# Altium schematic symbol library PBL - Connectors.SCHLIB: 61 symbols
Pins are listed as number, name and electrical type; pins without a type are passive.

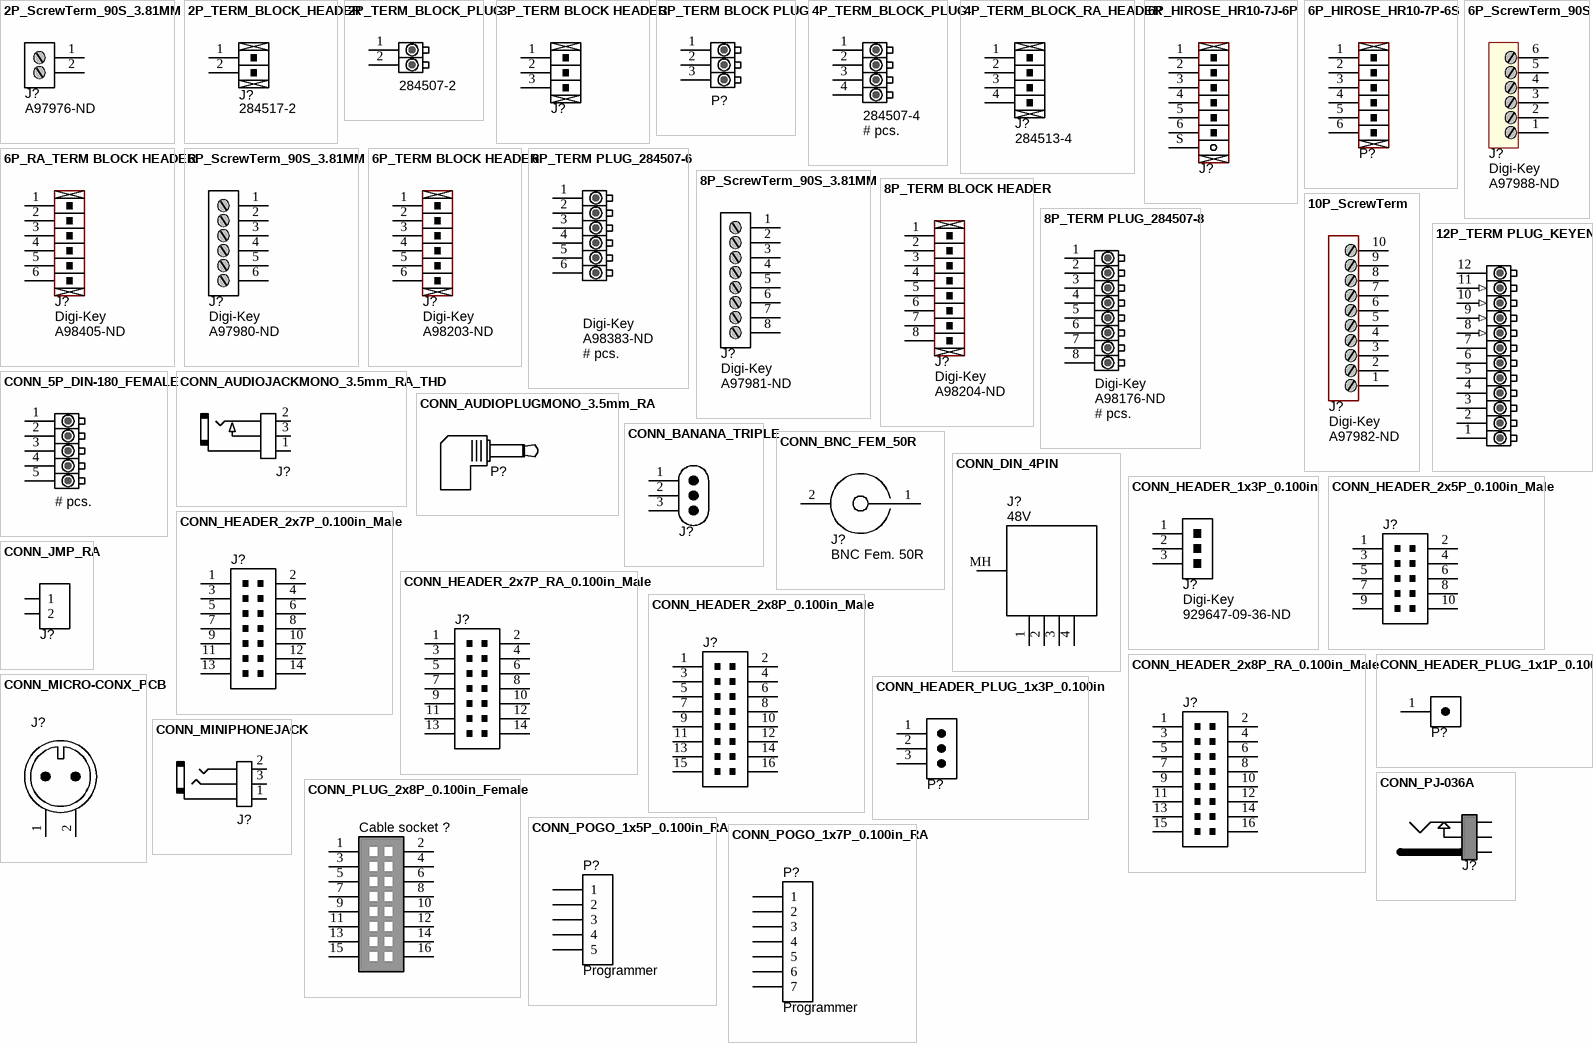
[diagram p0: symbols 2P_ScrewTerm_90S_3.81MM to CONN_POGO_1x7P_0.100in_RA]

## 2P_ScrewTerm_90S_3.81MM
designator J?, comment Supplier Part Number 1: A97976-ND  (hidden comment: Stackable ScrewTerm)
Terminal Block Screw Type THT 2-Position 3.81mm pitch; Manufacturer 1: Tyco Electronics; Manufacturer Part Number 1: 1776113-2; Value: 2 position; Pitch: 0.150" (3.81mm); Positions Per Level: 2; SCDType: undef; Package / Case: Side Entry; 3.81mm pitch; Category: Connectors Interconnects; Color: Black; Supplier 1: Digi-Key
footprint 2P_PCB_ScrewTerm_90S_3.81MM (TERM BLOCK 2POS SIDE ENT STACKABLE 3.81MM)
pins: 1, 2

## 2P_TERM_BLOCK_HEADER
designator J?  Manufacturer Part Number 1: 284517-2  (hidden comment: *)
Terminal Block THT 2-position header 3.81mm pitch; Manufacturer 1: TE Connectivity; Pitch: 0.150" (3.81mm); Voltage: 300V; Positions Per Level: 2; Mating Connector: 284507-2; SCDType: undef; Category: Connectors; Mounting Type: Through Hole; Terminal Block Type: Header, Male Pins, Right-angle, Shrouded (4 Side); Package / Case: Header; 3.81mm pitch; Supplier 1: Digi-Key; Supplier Part Number 1: A98410-ND
footprint 2P_PCB_TERM_BLOCK_HDR (TERM BLOCK HDR 2POS 3.81MM)
pins: 1, 2

## 2P_TERM_BLOCK_PLUG
designator J?, comment Manufacturer Part Number 1: 284507-2  (hidden comment: # pcs.)  (mechanical)
Terminal Block Plug 2-position 3.81mm pitch; Manufacturer 1: Tyco Electronics; Pitch: 0.150" (3.81mm); Mating Orientation: In-Line with Wire; Current: 11A; Voltage: 300V; Wire Gauge: 14-30 AWG; Number of Levels: 1; Positions Per Level: 2; SCDType: undef; Category: Connectors Interconnects; Terminal Block Type: Plug, Female Sockets; Color: Green; Mounting Type: Free Hanging (In-Line); Termination: Screw; ComponentLink1URL: http://documents.tycoelectronics.com/commerce/DocumentDelivery/DDEController?Action=srchrtrv&DocNm=284507&DocType=CD&DocLang=EN; ComponentLink1Description: http://documents.tycoelectronics.com/commerce/DocumentDelivery/DDEController?Action=srchrtrv&DocNm=284507&DocType=CD&DocLang=EN; Supplier 1: Digi-Key; Supplier Part Number 1: A98175-ND
pins: 1, 2

## 3P_TERM BLOCK HEADER
designator J?  (value not drawn)
Terminal Block THT 3-Position header 3.81mm pitch; Manufacturer 1: TE Connectivity; Manufacturer Part Number 1: 284517-3; Pitch: 0.150" (3.81mm); Voltage: 300V; Mating Connector: 284507-3; Value: 3 position; Positions Per Level: 3; SCDType: undef; Category: Connectors; Mounting Type: Through Hole; Terminal Block Type: Header, Male Pins, Shrouded (4 Side); Package / Case: Side Entry; 3.81mm pitch; Supplier 1: Digi-Key; Supplier Part Number 1: A98411-ND; ComponentLink1URL: http://www.te.com/commerce/DocumentDelivery/DDEController?Action=srchrtrv&DocNm=284517&DocType=Customer+Drawing&DocLang=English; ComponentLink1Description: http://www.te.com/commerce/DocumentDelivery/DDEController?Action=srchrtrv&DocNm=284517&DocType=Customer+Drawing&DocLang=English
footprint 3P_PCB_TERM_BLOCK_HDR (TERM BLOCK HDR 3POS 3.81MM)
pins: 1, 2, 3

## 3P_TERM BLOCK PLUG
designator P?  (value not drawn)  (mechanical)
Terminal block plug 3-position 3.81mm pitch; Manufacturer 1: TE Connectivity; Manufacturer Part Number 1: 284507-3; Pitch: 0.150" (3.81mm); Voltage: 300V; Mating Connector: 284517-3; Value: 3 position; Positions Per Level: 3; Plug Wire Entry: 180°; Wire Gauge: 14-30 AWG; SCDType: undef; Category: Connectors; Mounting Type: Free Hanging (In-Line); Terminal Block Type: Plug, Female Sockets; Supplier 1: Digi-Key; Supplier Part Number 1: A98380-ND; ComponentLink2URL: http://www.te.com/commerce/DocumentDelivery/DDEController?Action=srchrtrv&DocNm=284507&DocType=Customer+Drawing&DocLang=English; ComponentLink2Description: http://www.te.com/commerce/DocumentDelivery/DDEController?Action=srchrtrv&DocNm=284507&DocType=Customer+Drawing&DocLang=English
pins: 1, 2, 3

## 4P_TERM_BLOCK_PLUG
designator J?, comment # pcs.  Manufacturer Part Number 1: 284507-4  (mechanical)
Terminal Block Plug 4-position 3.81mm pitch; Manufacturer 1: Tyco Electronics; Pitch: 0.150" (3.81mm); Mating Orientation: In-Line with Wire; Current: 11A; Voltage: 300V; Wire Gauge: 14-30 AWG; Number of Levels: 1; Positions Per Level: 4; Value: 4 position; SCDType: undef; Category: Connectors Interconnects; Terminal Block Type: Plug, Female Sockets; Color: Green; Mounting Type: Free Hanging (In-Line); Features: -; Termination: Screw; ComponentLink1URL: http://documents.tycoelectronics.com/commerce/DocumentDelivery/DDEController?Action=srchrtrv&DocNm=284507&DocType=CD&DocLang=EN; ComponentLink1Description: http://documents.tycoelectronics.com/commerce/DocumentDelivery/DDEController?Action=srchrtrv&DocNm=284507&DocType=CD&DocLang=EN; QtyOverride: *; Supplier 1: Digi-Key; Supplier Part Number 1: A98381-ND
pins: 1, 2, 3, 4

## 4P_TERM_BLOCK_RA_HEADER
designator J?  Manufacturer Part Number 1: 284513-4  (hidden comment: *)
Terminal Block THT Right Angle 4-Position Header 3.81mm pitch; Manufacturer 1: Tyco Electronics; Pitch: 0.150" (3.81mm); Voltage: 300V; Value: 4 position; Positions Per Level: 6; SCDType: undef; Category: Connectors; Mounting Type: Through Hole; Terminal Block Type: Header, Male Pins, Right-angle, Shrouded (4 Side); Package / Case: Side Entry; 3.81mm pitch; Supplier 1: Digi-Key; Supplier Part Number 1: A98403-ND
footprint 4P_PCB_TERM_BLOCK_HDR_RA (TERM BLOCK HDR 4POS 3.81MM RIGHT-ANGLE)
pins: 1, 2, 3, 4

## 6P_HIROSE_HR10-7J-6P
designator J?, comment HR10-7J-6P(73)  (value not drawn)
Connector 6 jack with pin insert; Manufacturer 1: Hirose Electric Co Ltd; Value: 6 position; SCDType: undef; Category: Connectors; Manufacturer Part Number 1: HR10-7J-6P(73); Supplier 1: Digi-Key; Supplier Part Number 1: HR1567-ND
footprint HDR1X6S (Connector; Header; 6 Position with shield term)
pins: 1, 2, 3, 4, 5, 6, S

## 6P_HIROSE_HR10-7P-6S
designator P?, comment HR10-7P-6S(73)  (value not drawn)
Connector 6 contact with socket insert; Manufacturer 1: Hirose Electric Co Ltd; Value: 6 position; SCDType: undef; Category: Connectors; Manufacturer Part Number 1: HR10-7P-6S(73); Supplier 1: Digi-Key; Supplier Part Number 1: HR1561-ND
footprint HDR1X6 (Connector; Header; 6 Position)
pins: 1, 2, 3, 4, 5, 6

## 6P_RA_TERM BLOCK HEADER
designator J?  Supplier 1: Digi-Key  Supplier Part Number 1: A98405-ND  (hidden comment: *)
Terminal Block THT Right Angle 6-Position Header 3.81mm pitch; Manufacturer 1: Tyco Electronics; Manufacturer Part Number 1: 284513-6; Pitch: 0.150" (3.81mm); Voltage: 300V; Mating Connector: 284507-6; Value: 6 position; Positions Per Level: 6; SCDType: undef; Category: Connectors; Mounting Type: Through Hole; Terminal Block Type: Header, Male Pins, Right-angle, Shrouded (4 Side); Package / Case: Side Entry; 3.81mm pitch
footprint 6P_PCB_TERM BLOCK HDR_RA (TERM BLOCK HDR 6POS 3.81MM RIGHT-ANGLE)
pins: 1, 2, 3, 4, 5, 6

## 6P_ScrewTerm_90S
designator J?  Supplier 1: Digi-Key  Supplier Part Number 1: A97988-ND  (hidden comment: *)
TERM BLOCK 6POS SIDE ENT STACKABLE 5.08MM; Manufacturer 1: Tyco Electronics; Manufacturer Part Number 1: 1776119-6; Current: 10A; Mating Orientation: Horizontal with Board; Pitch: 0.200" (5.08mm); Voltage: 300V; Wire Gauge: 15-17 AWG; Number of Levels: 1; Positions Per Level: 6; SCDType: undef; Category: Connectors Interconnects; Color: Black; Features: -; Mounting Type: Through Hole; Terminal Block Type: Wire to Board; Termination: Screw; ComponentLink1URL: http://documents.tycoelectronics.com/commerce/DocumentDelivery/DDEController?Action=srchrtrv&DocNm=1776119&DocType=CD&DocLang=EN; ComponentLink1Description: http://documents.tycoelectronics.com/commerce/DocumentDelivery/DDEController?Action=srchrtrv&DocNm=1776119&DocType=CD&DocLang=EN; Package / Case: Side Entry; 5.08mm pitch
footprint 6P_PCB_ScrewTerm90S (TERM BLOCK 6POS SIDE ENT STACKABLE 5.08MM)
pins: 1, 2, 3, 4, 5, 6

## 6P_ScrewTerm_90S_3.81MM
designator J?, comment Supplier 1: Digi-Key  Supplier Part Number 1: A97980-ND  (hidden comment: Stackable ScrewTerm)
Terminal Block, THT, 6-Position screwterm, 3.81mm pitch; Manufacturer 1: Tyco Electronics; Manufacturer Part Number 1: 1776113-6; Value: 6 position; Pitch: 0.150" (3.81mm); Positions Per Level: 6; SCDType: undef; Package / Case: Side Entry; 3.81mm pitch; Category: Connectors Interconnects; Color: Black
footprint 6P_PCB_ScrewTerm_90S_3.81MM (TERM BLOCK 6POS SIDE ENT STACKABLE 3.81MM)
pins: 1, 2, 3, 4, 5, 6

## 6P_TERM BLOCK HEADER
designator J?  Supplier 1: Digi-Key  Supplier Part Number 1: A98203-ND  (hidden comment: *)
Terminal Block, THT, 6-Position header, 3.81mm pitch; Manufacturer 1: Tyco Electronics; Manufacturer Part Number 1: 284517-6; Pitch: 0.150" (3.81mm); Voltage: 300V; Mating Connector: 284507-6; Value: 6 position; Positions Per Level: 6; SCDType: undef; Category: Connectors; Mounting Type: Through Hole; Terminal Block Type: Header, Male Pins, Shrouded (4 Side); Package / Case: Side Entry; 3.81mm pitch
footprint 6P_PCB_TERM BLOCK HDR (TERM BLOCK HDR 6POS 3.81MM)
pins: 1, 2, 3, 4, 5, 6

## 6P_TERM PLUG_284507-6
designator J?, comment # pcs.  Supplier 1: Digi-Key  Supplier Part Number 1: A98383-ND  (mechanical)
Terminal Block Plug, 6-position, 3.81mm pitch; Manufacturer 1: Tyco Electronics; Manufacturer Part Number 1: 284507-6; Pitch: 0.150" (3.81mm); Mating Orientation: In-Line with Wire; Current: 11A; Voltage: 300V; Wire Gauge: 14-30 AWG; Number of Levels: 1; Positions Per Level: 6; Value: 6 position; SCDType: undef; Category: Connectors Interconnects; Terminal Block Type: Plug, Female Sockets; Color: Green; Mounting Type: Free Hanging (In-Line); Features: -; Termination: Screw; QtyOverride: *
pins: 1, 2, 3, 4, 5, 6

## 8P_ScrewTerm_90S_3.81MM
designator J?, comment Supplier 1: Digi-Key  Supplier Part Number 1: A97981-ND  (hidden comment: Stackable ScrewTerm)
Terminal Block, THT, 8-Position screwterm, 3.81mm pitch; Manufacturer 1: Tyco Electronics; Manufacturer Part Number 1: 1776113-8; Value: 8 position; Pitch: 0.150" (3.81mm); Positions Per Level: 8; SCDType: undef; Package / Case: Side Entry; 3.81mm pitch; Category: Connectors Interconnects; Color: Black
footprint 8P_PCB_ScrewTerm_90S_3.81MM (TERM BLOCK 8POS SIDE ENT STACKABLE 3.81MM)
pins: 1, 2, 3, 4, 5, 6, 7, 8

## 8P_TERM BLOCK HEADER
designator J?  Supplier 1: Digi-Key  Supplier Part Number 1: A98204-ND  (hidden comment: *)
Terminal Block, THT, 8-Position header, 3.81mm pitch; Manufacturer 1: Tyco Electronics; Manufacturer Part Number 1: 284517-8; Pitch: 0.150" (3.81mm); Voltage: 300V; Mating Connector: 284507-8; Value: 8 position; Positions Per Level: 8; SCDType: undef; Category: Connectors; Mounting Type: Through Hole; Terminal Block Type: Header, Male Pins, Shrouded (4 Side); Package / Case: Side Entry; 3.81mm pitch
footprint 8P_PCB_TERM BLOCK HDR (TERM BLOCK HDR 8POS 3.81MM)
pins: 1, 2, 3, 4, 5, 6, 7, 8

## 8P_TERM PLUG_284507-8
designator J?, comment # pcs.  Supplier 1: Digi-Key  Supplier Part Number 1: A98176-ND  (mechanical)
Terminal Block Plug, 8-position, 3.81mm pitch; Manufacturer 1: Tyco Electronics; Manufacturer Part Number 1: 284507-8; Pitch: 0.150" (3.81mm); Mating Orientation: In-Line with Wire; Current: 11A; Voltage: 300V; Wire Gauge: 14-30 AWG; Number of Levels: 1; Positions Per Level: 8; Value: 8 position; SCDType: undef; Category: Connectors Interconnects; Terminal Block Type: Plug, Female Sockets; Color: Green; Mounting Type: Free Hanging (In-Line); Features: -; Termination: Screw; ComponentLink1URL: http://documents.tycoelectronics.com/commerce/DocumentDelivery/DDEController?Action=srchrtrv&DocNm=284507&DocType=CD&DocLang=EN; ComponentLink1Description: http://documents.tycoelectronics.com/commerce/DocumentDelivery/DDEController?Action=srchrtrv&DocNm=284507&DocType=CD&DocLang=EN; QtyOverride: *
pins: 1, 2, 3, 4, 5, 6, 7, 8

## 10P_ScrewTerm
designator J?  Supplier 1: Digi-Key  Supplier Part Number 1: A97982-ND  (hidden comment: *)
TERM BLOCK 10POS SIDE ENT 3.81MM; Manufacturer 1: Tyco Electronics; Manufacturer Part Number 1: 1-1776113-0; Current: 12A; Mating Orientation: Horizontal with Board; Pitch: 0.150" (3.81mm); Voltage: 150V; Wire Gauge: 16-28 AWG; Number of Levels: 1; Positions Per Level: 10; SCDType: undef; Category: Connectors; Color: Black; Features: -; Mounting Type: Through Hole; Terminal Block Type: Wire to Board; Termination: Screw; ComponentLink1URL: http://documents.tycoelectronics.com/commerce/DocumentDelivery/DDEController?Action=srchrtrv&DocNm=1776113&DocType=CD&DocLang=EN; ComponentLink1Description: http://documents.tycoelectronics.com/commerce/DocumentDelivery/DDEController?Action=srchrtrv&DocNm=1776113&DocType=CD&DocLang=EN; Package / Case: Side Entry; 3.81mm pitch
footprint 10P_PCB_ScrewTerm (TERM BLOCK 10POS SIDE ENT 3.81MM)
pins: 1, 2, 3, 4, 5, 6, 7, 8, 9, 10

## 12P_TERM PLUG_KEYENCE
designator J?, comment 12 position  (value not drawn)  (graphical)
Terminal Block Plug, 12-position, Keyence Laser Controller; Wire Gauge: 28-16 AWG; Value: 12 position
pins: 1 24VDC- (power), 2 24VDC+ (power), 3 OUT1 HI (oc), 4 OUT1 GO (oc), 5 OUT1 LO (oc), 6 N.C. (oc), 7 GND OUT (power), 8 TIMING1 (in), 9 RESET1 (in), 10 ZERO1 (in), 11 REMOTE (in), 12 GND IN (power)

## CONN_5P_DIN-180_FEMALE
designator P?, comment # pcs.  (mechanical)
Connector DIN-180 5-Pin Female Plug; Manufacturer 1: CUI Inc; Manufacturer Part Number 1: SD-50J; Mating Orientation: In-Line with Wire; Value: 5-Pin DIN-180; QtyOverride: 1; SCDType: undef; Category: Connectors Interconnects; Mounting Type: Free Hanging (In-Line); Supplier 1: Digi-Key; Supplier Part Number 1: CP-1150-ND
pins: 1, 2, 3, 4, 5

## CONN_AUDIOJACKMONO_3.5mm_RA_THD
designator J?, comment Mono phone jack  (value not drawn)
3.5mm Audio jack - Mono; Manufacturer 1: CUI Inc; Manufacturer Part Number 1: MJ-3502; Ratings: 1A; 12VDC; SCDType: undef; Material: Plastic, brass, silver; Package / Case: right-angle THD; Supplier 1: Digi-Key; Supplier Part Number 1: CP-3502MJ-ND
footprint CONN_AudioJackMono (CUI MJ-3502 3.5mm audio jack - mono)
pins: 1 Base, 2 TIP, 3 Middle

## CONN_AUDIOPLUGMONO_3.5mm_RA
designator P?, comment Mono phone plug  (value not drawn)  (mechanical)
3.5mm Audio plug - Mono; Manufacturer 1: Tensility International Corp; Manufacturer Part Number 1: CA-2206; 1st Connector: Phone Plug, 3.5mm (1/8"), Right Angle; 2nd Connector: Cable (Round); Shielding: Shielded; SCDType: undef; Package / Case: right-angle THD; Supplier 1: Digi-Key; Supplier Part Number 1: CP-2206-ND; Channels: Mono; Length: 6.0' (1.83m); Color: Black; ComponentLink1URL: http://www.tensility.com/pdffiles/CA-2206.pdf; ComponentLink1Description: http://www.tensility.com/pdffiles/CA-2206.pdf
pins: 1, 2

## CONN_BANANA_TRIPLE
designator J?, comment triple banana jack  (value not drawn)
Banana Jack triple panel mount; Manufacturer 1: Pomona Electronics; Manufacturer Part Number 1: 4601-0; Value: Single-row, 3 positions; Insulation: Mating End Insulated; SCDType: undef; Supplier 1: Digi-Key; Supplier Part Number 1: 501-1379-ND; Type: Banana Jack, Triple; Mounting Type: Panel Mount; Contact Finish: Tin; Contact Material: Brass; ComponentLink1URL: http://www.pomonaelectronics.com/pdf/d4601_1_01.pdf; ComponentLink1Description: http://www.pomonaelectronics.com/pdf/d4601_1_01.pdf
footprint BANANA_TRIPLE (Triple Banana jack, panel mount style)
pins: 1, 2, 3

## CONN_BNC_FEM_50R
designator J?, comment BNC Fem. 50R
Connector BNC 50 Ohm right-angle PCB mounted; Manufacturer 1: TE Connectivity; Manufacturer Part Number 1: 5413515-9; Impedance: 50 Ohm; Ratings: 9400pF; 1500V; SCDType: undef; Category: Connectors; Mounting Type: Through Hole; Supplier 1: Digi-Key; Supplier Part Number 1: A32418-ND; ComponentLink1URL: http://www.te.com/commerce/DocumentDelivery/DDEController?Action=srchrtrv&DocNm=5413515&DocType=Customer+Drawing&DocLang=English; ComponentLink1Description: TE Datasheet
footprint CONN_BNC_RA_PCB (BNC connector, right angle PCB-mounted)
pins: 1, 2

## CONN_DIN_4PIN
designator J?, comment 48V
Connector Power THT 4-PIN DIN Female PCB mount; Manufacturer 1: CUI Inc; Manufacturer Part Number 1: PD-40S; SCDType: undef; Mounting Type: Through Hole; Package / Case: PCB mount; Value: 4-Pin DIN; Supplier 1: Digi-Key; Supplier Part Number 1: CP-7240-ND
footprint CONN_PWR-DIN_4PIN_PD-40S (Power Connector, 4-pin DIN)
pins: 1 +V, 2 GND, 3 GND, 4 +V, MH

## CONN_HEADER_1x3P_0.100in
designator J?  Supplier 1: Digi-Key  Supplier Part Number 1: 929647-09-36-ND  (hidden comment: *)
Pin Header, THT, Single-row, 2.54mm pitch; Manufacturer 1: 3M; Manufacturer Part Number 1: 929647-09-36-I; Pitch: 0.100" (2.54mm); Value: Single-row, 3 positions; QtyOverride: 0.1; SCDType: undef; Category: Connectors; Mounting Type: Through Hole; Terminal Block Type: Header, Male Pins, Single; Package / Case: Pin header; 2.54mm pitch
footprint 1x3POS_HEADER (Connector Header, Single-row 3-position, 0.100" pitch)
pins: 1, 2, 3

## CONN_HEADER_2x5P_0.100in_Male
designator J?, comment shrouded box header  (value not drawn)
Header THD 10 POS Double-row 2.54mm pitch; Manufacturer 1: 3M; Manufacturer Part Number 1: D2510-6002-AR; Pitch: 0.100" (2.54mm); Value: Double-row, 10 positions; QtyOverride: 1; Connector Type: Header, Shrouded; Number of Positions: 10; SCDType: undef; Package / Case: Connector header; 2.54mm pitch; Contact Type: Male Pin; Number of Rows: 2; Row Spacing: 0.100" (2.54mm); Contact Mating Length: 0.243" (6.17mm); ComponentLink1URL: http://multimedia.3m.com/mws/mediawebserver?66666UuZjcFSLXTtm8T_oxMcEVuQEcuZgVs6EVs6E666666--; ComponentLink1Description: http://multimedia.3m.com/mws/mediawebserver?66666UuZjcFSLXTtm8T_oxMcEVuQEcuZgVs6EVs6E666666--; Supplier 1: Digi-Key; Supplier Part Number 1: MHC10E-ND
footprint 10P_PCB_HEADER_BRD_MNT (HEADER BRD MNT 10POS 2.54MM)
pins: 1, 2, 3, 4, 5, 6, 7, 8, 9, 10

## CONN_HEADER_2x7P_0.100in_Male
designator J?, comment shrouded box header  (value not drawn)
Header THD 14 POS Double-row 2.54mm pitch; Manufacturer 1: 3M; Manufacturer Part Number 1: D2514-6002-AR; Pitch: 0.100" (2.54mm); Value: Double-row, 14 positions; QtyOverride: 1; Connector Type: Header, Shrouded; Number of Positions: 14; SCDType: undef; Package / Case: Connector header; 2.54mm pitch; Contact Type: Male Pin; Number of Rows: 2; Row Spacing: 0.100" (2.54mm); Contact Mating Length: 0.243" (6.17mm); ComponentLink1URL: http://multimedia.3m.com/mws/mediawebserver?66666UuZjcFSLXTtm8T_oxMcEVuQEcuZgVs6EVs6E666666--; ComponentLink1Description: http://multimedia.3m.com/mws/mediawebserver?66666UuZjcFSLXTtm8T_oxMcEVuQEcuZgVs6EVs6E666666--; Supplier 1: Digi-Key; Supplier Part Number 1: MHC14E-ND
footprint 14P_PCB_HEADER_BRD_MNT (HEADER BRD MNT 14POS 2.54MM)
pins: 1, 2, 3, 4, 5, 6, 7, 8, 9, 10, 11, 12, 13, 14

## CONN_HEADER_2x7P_RA_0.100in_Male
designator J?, comment shrouded box header  (value not drawn)
Header THD 14 POS Double-row right-angle 2.54mm pitch; Manufacturer 1: 3M; Manufacturer Part Number 1: D2514-5002-AR; Pitch: 0.100" (2.54mm); Value: Double-row, 14 positions; QtyOverride: 1; Connector Type: Header, Shrouded; Number of Positions: 14; SCDType: source; Package / Case: Connector header; 2.54mm pitch; Contact Type: Male Pin; Number of Rows: 2; Row Spacing: 0.100" (2.54mm); Contact Mating Length: 0.243" (6.17mm); ComponentLink1URL: http://multimedia.3m.com/mws/mediawebserver?66666UuZjcFSLXTtm8T_oxMcEVuQEcuZgVs6EVs6E666666--; ComponentLink1Description: http://multimedia.3m.com/mws/mediawebserver?66666UuZjcFSLXTtm8T_oxMcEVuQEcuZgVs6EVs6E666666--; Supplier 1: Digi-Key; Supplier Part Number 1: MHE14E-ND
footprint 14P_PCB_HEADER_BRD_MNT_RA (HEADER BRD MNT R/A 14POS 2.54MM)
pins: 1, 2, 3, 4, 5, 6, 7, 8, 9, 10, 11, 12, 13, 14

## CONN_HEADER_2x8P_0.100in_Male
designator J?, comment shrouded box header  (value not drawn)
Header THD 16 POS Double-row 2.54mm pitch; Manufacturer 1: 3M; Manufacturer Part Number 1: D2516-6002-AR; Pitch: 0.100" (2.54mm); Value: Double-row, 16 positions; QtyOverride: 1; Connector Type: Header, Shrouded; Number of Positions: 16; SCDType: undef; Package / Case: Connector header; 2.54mm pitch; Contact Type: Male Pin; Number of Rows: 2; Row Spacing: 0.100" (2.54mm); Contact Mating Length: 0.243" (6.17mm); ComponentLink1URL: http://multimedia.3m.com/mws/mediawebserver?66666UuZjcFSLXTtm8T_oxMcEVuQEcuZgVs6EVs6E666666--; ComponentLink1Description: http://multimedia.3m.com/mws/mediawebserver?66666UuZjcFSLXTtm8T_oxMcEVuQEcuZgVs6EVs6E666666--; Supplier 1: Digi-Key; Supplier Part Number 1: MHC16E-ND
footprint 16P_PCB_HEADER_BRD_MNT (HEADER BRD MNT 16POS 2.54MM)
pins: 1, 2, 3, 4, 5, 6, 7, 8, 9, 10, 11, 12, 13, 14, 15, 16

## CONN_HEADER_2x8P_RA_0.100in_Male
designator J?, comment shrouded box header  (value not drawn)
Header THD 16 POS Right-angle Double-row 2.54mm pitch; Manufacturer 1: 3M; Manufacturer Part Number 1: D2516-5002-AR; Pitch: 0.100" (2.54mm); Value: Double-row, 16 positions; QtyOverride: 1; Connector Type: Header, Shrouded; Number of Positions: 16; SCDType: undef; Package / Case: Connector header; 2.54mm pitch; Supplier 1: Digi-Key; Supplier Part Number 1: MHE16E-ND; Contact Type: Male Pin; Number of Rows: 2; Row Spacing: 0.100" (2.54mm); Contact Mating Length: 0.243" (6.17mm); ComponentLink1URL: http://multimedia.3m.com/mws/mediawebserver?66666UuZjcFSLXTtm8T_oxMcEVuQEcuZgVs6EVs6E666666--; ComponentLink1Description: http://multimedia.3m.com/mws/mediawebserver?66666UuZjcFSLXTtm8T_oxMcEVuQEcuZgVs6EVs6E666666--
footprint 16P_PCB_HEADER_BRD_MNT_RA (HEADER BRD MNT R/A 16POS 2.54MM)
pins: 1, 2, 3, 4, 5, 6, 7, 8, 9, 10, 11, 12, 13, 14, 15, 16

## CONN_HEADER_PLUG_1x1P_0.100in
designator P?  (value not drawn)
Pin header for socket THT 1-Pos Low profile Single-row 2.54mm pitch; Manufacturer 1: Mill-Max Manufacturing Corp.; Manufacturer Part Number 1: 800-10-064-10-002000; Pitch: 0.100" (2.54mm); Value: 1x1 Pos.; QtyOverride: 0.02; SCDType: undef; Category: Connectors; Mounting Type: Through Hole; Package / Case: Socket header; 2.54mm pitch; Supplier 1: Digi-Key; Supplier Part Number 1: ED7564-ND
footprint 1x1POS_HEADER_LOWPROF (Connector Header, Single-row 1-position, 0.100" pitch)
pins: 1

## CONN_HEADER_PLUG_1x3P_0.100in
designator P?  (value not drawn)
Pin header for socket THT 3-Pos Low profile Single-row 2.54mm pitch; Manufacturer 1: Mill-Max Manufacturing Corp.; Manufacturer Part Number 1: 800-10-064-10-002000; Pitch: 0.100" (2.54mm); Value: 1x3 Pos.; QtyOverride: 0.05; SCDType: undef; Category: Connectors; Mounting Type: Through Hole; Package / Case: Socket header; 2.54mm pitch; Supplier 1: Digi-Key; Supplier Part Number 1: ED7564-ND
footprint 1x3POS_HEADER_LOWPROF (Connector Header, Single-row 3-position, 0.100" pitch)
pins: 1, 2, 3

## CONN_JMP_RA
designator J?, comment Connector, jumper  (value not drawn)
Connector Header 0.100in Right-angle single row; Manufacturer 1: Samtec Inc; Manufacturer Part Number 1: TSW-150-08-L-S-RA; QtyOverride: 0.05; SCDType: undef; Package / Case: Single-row pin header, male; Material: Plastic, metal; Supplier 1: Digi-Key; Supplier Part Number 1: SAM1043-50-ND
footprint JMP2_RA (2-pin RA jumper, 0.1" .025 pins)
pins: 1, 2

## CONN_MICRO-CONX_PCB
designator J?, comment Micro-Con-X sealed connector  (value not drawn)
Micro-Con-X Panel Mount Receptacle 2-pin PC Tail Contacts; Manufacturer 1: CONXALL; Manufacturer Part Number 1: 17292-2PG-300; SCDType: undef; Mounting Type: PCB with panel mount; Package / Case: PCB mount; Value: 2-pin
footprint CONN_JACK_MICRO-CONX (Micro-ConX 17292-2PG-300)
pins: 1, 2

## CONN_MINIPHONEJACK
designator J?, comment Stereo phone jack  (value not drawn)
Stereo phone jack mini; Manufacturer 1: CUI Inc; Manufacturer Part Number 1: SJ1-2513-SMT; SCDType: undef; Material: Plastic, metal; Supplier 1: Digi-Key; Supplier Part Number 1: CP1-2513SJCT-ND
footprint CONN_PhoneMiniStereo (CUI SJ1-2513-SMT 2.5mm stereo jack)
pins: 1 Base, 2 TIP, 3 Middle

## CONN_PJ-036A
designator J?, comment PJ-036A-SMT  (value not drawn)
Connector SMD power jack 2.0mm x 6.3mm; Manufacturer 1: CUI Inc; SCDType: undef; Material: Plastic, metal; Supplier 1: Digi-Key; Supplier Part Number 1: CP-036APJCT-ND; Manufacturer Part Number 1: PJ-036A-SMT
footprint CUI_PJ-036A-SMT
pins: 1, 2, 3

## CONN_PLUG_2x8P_0.100in_Female
designator Cable socket ?, comment 16 POS IDC socket  (value not drawn)  (mechanical)
Ribbon cable socket 16 POS Double-row 2.54mm pitch; Manufacturer 1: 3M; Manufacturer Part Number 1: 3452-6616; Pitch: 0.100" (2.54mm); Value: Double-row, 16 positions; QtyOverride: 1; Number of Positions: 16; SCDType: undef; Package / Case: Cable socket; 2.54mm pitch; Contact Type: Female socket; Number of Rows: 2; Row Spacing: 0.100" (2.54mm); Supplier 1: Digi-Key; Supplier Part Number 1: 3M11948-ND
pins: 1, 2, 3, 4, 5, 6, 7, 8, 9, 10, 11, 12, 13, 14, 15, 16

## CONN_POGO_1x5P_0.100in_RA
designator P?, comment Programmer
Connector spring pins 5-position 2.54mm pitch right-angle; Manufacturer 1: Mill-Max Manufacturing Corp.; Manufacturer Part Number 1: 829-22-005-20-001101; Connector Type: Piston; Number of Contacts: 5; Pitch: 0.100" (2.54mm); SCDType: Source; Mounting Type: Through Hole, Right Angle; Material: Copper Alloy; Contact Finish: Gold; Number of Rows: 1; Row Spacing: -; Contact Finish Thickness: 20µin (0.51µm); Supplier 1: Digi-Key; Supplier Part Number 1: ED90506-ND; RoHS 1: RoHS Compliant; ComponentLink1URL: http://www.mill-max.com/assets/pdfs/016.PDF; ComponentLink1Description: http://www.mill-max.com/assets/pdfs/016.PDF
footprint CONN_POGO_5POS_RA_0.100IN (Connector; Pogo pins; 5 Position)
pins: 1, 2, 3, 4, 5

## CONN_POGO_1x7P_0.100in_RA
designator P?, comment Programmer
Connector spring pins 7-position 2.54mm pitch right-angle; Manufacturer 1: Mill-Max Manufacturing Corp.; Manufacturer Part Number 1: 829-22-007-20-001101; Connector Type: Piston; Number of Contacts: 7; Pitch: 0.100" (2.54mm); SCDType: undef; Supplier 1: Digi-Key; Supplier Part Number 1: ED90508-ND; Mounting Type: Through Hole, Right Angle; Material: Copper Alloy; Contact Finish: Gold; ComponentLink1URL: http://www.mill-max.com/images/products/pdf/012.1N.PDF; ComponentLink1Description: http://www.mill-max.com/images/products/pdf/012.1N.PDF
footprint CONN_POGO_7POS_RA_0.100IN (Connector; Pogo pins; 7 Position)
pins: 1, 2, 3, 4, 5, 6, 7

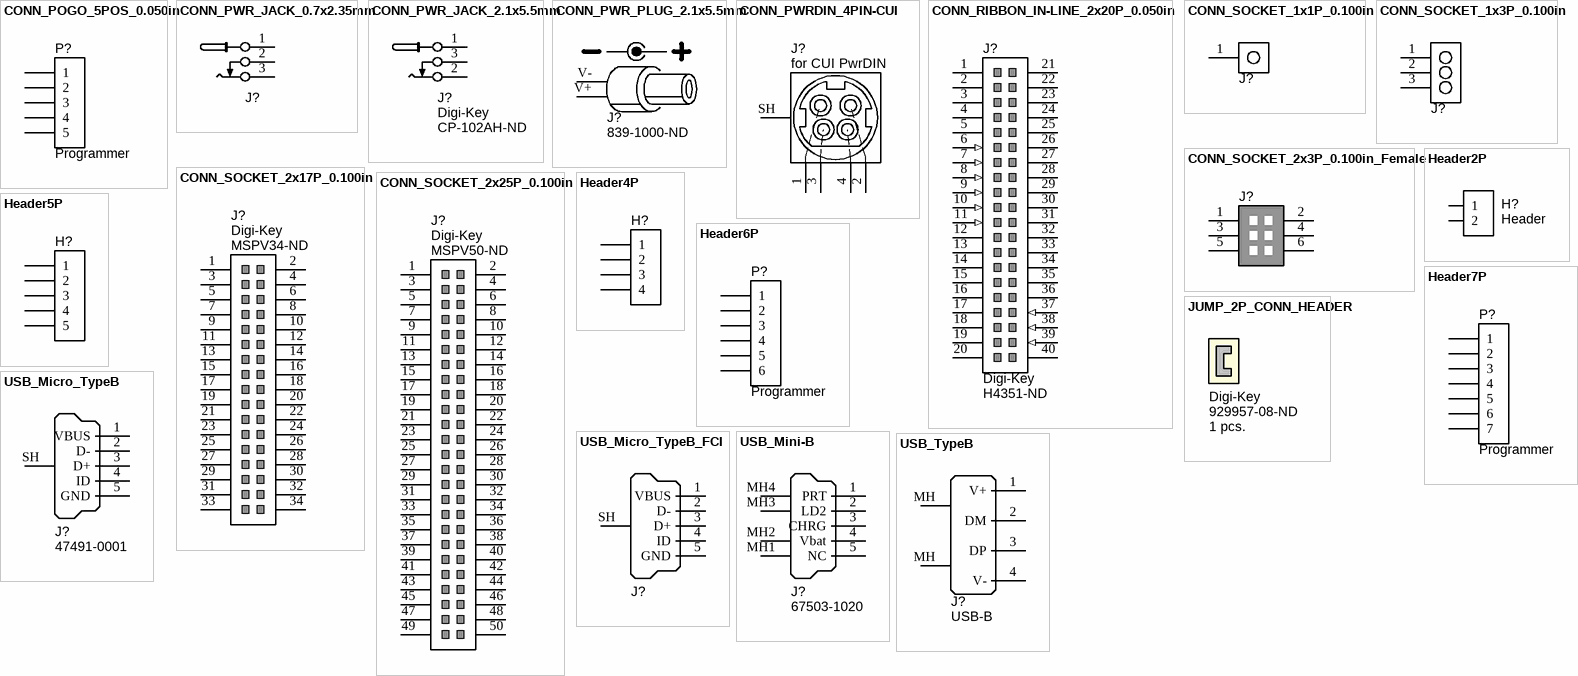
[diagram p1: symbols CONN_POGO_5POS_0.050in to USB_TypeB]

## CONN_POGO_5POS_0.050in
designator P?, comment Programmer
Connector spring pins 5-position 1.27mm pitch; Manufacturer 1: Mill-Max Manufacturing Corp.; Manufacturer Part Number 1: 854-22-005-10-001101; Connector Type: Piston; Number of Contacts: 5; Pitch: 0.050" (1.27mm); SCDType: source; Mounting Type: Through Hole; Material: Brass Alloy; Contact Finish: Gold; Supplier 1: Digi-Key; Supplier Part Number 1: 854-22-005-10-001101-ND; RoHS 1: RoHS Compliant; Contact Finish Thickness: 20µin (0.51µm); ComponentLink1URL: http://www.mill-max.com/assets/pdfs/018.PDF; ComponentLink1Description: http://www.mill-max.com/assets/pdfs/018.PDF
footprint CONN_POGO_5POS_MID_1.27MMP (Programming connector; lap-soldered 5 Position pogo style, 0.050" pitch)
pins: 1, 2, 3, 4, 5

## CONN_PWR_JACK_0.7x2.35mm
designator J?  (value not drawn)
Connector Power THT 0.7mm ID x 2.35mm OD; Manufacturer 1: Kobiconn; Manufacturer Part Number 1: 163-4307-E; Value: 0.7mm ID, 2.35mm OD; SCDType: undef; Category: Connectors; Mounting Type: Through Hole; Package / Case: PCB mount; HELPURL: http://www.mouser.com/ProductDetail/Kobiconn/163-4307-E/?qs=FrCfMICDGNKiKC02lNlE3g%3D%3D
footprint CONN_PWR_JACK_0.7x2.35mm (Power Connector, 0.7mm ID, 2.35mm OD)
pins: 1 POS, 2 NC, 3 NEG

## CONN_PWR_JACK_2.1x5.5mm
designator J?  Supplier 1: Digi-Key  Supplier Part Number 1: CP-102AH-ND  (hidden comment: *)
Power Connector, THT, 2.1mm ID, 5.5mm OD; Manufacturer 1: CUI Inc; Manufacturer Part Number 1: PJ-102AH; SCDType: undef; Category: Connectors; Mounting Type: Through Hole; Package / Case: PCB mount; Value: 2.1mm ID, 5.5mm OD
footprint CONN_PWR_JACK_2.1x5.5mm (Power Connector, 2.1mm ID, 5.5mm OD)
pins: 1, 2, 3

## CONN_PWR_PLUG_2.1x5.5mm
designator J?, comment Supplier Part Number 1: 839-1000-ND  (hidden comment: 2.1mm ID; 5.5mm OD; Locking Type)
Power Plug Locking Type 2.1mm ID x 5.5mm OD; Manufacturer 1: Tensility International Corp; Manufacturer Part Number 1: 10-00109; QtyOverride: 0.5; Ratings: 12VDC @ 5A; SCDType: undef; Category: Connectors; Mounting Type: Through Hole; Package / Case: Flying Leads; Value: 2.1mm ID; 5.5mm OD; Locking Type; Supplier 1: Digi-Key
footprint HDR_1x2_Power (Connector Header, Single-row 2-position, 0.200" pitch)
pins: V+, V-

## CONN_PWRDIN_4PIN-CUI
designator J?, comment for CUI PwrDIN
Connector Power THT 4-PIN DIN Female PCB mount; Manufacturer 1: CUI Inc; Manufacturer Part Number 1: PD-40S; SCDType: undef; Mounting Type: Through Hole; Package / Case: PCB mount; Value: 4-Pin DIN; Supplier 1: Digi-Key; Supplier Part Number 1: CP-7240-ND
footprint CONN_PWR-DIN_4PIN_PD-40S (Power Connector, 4-pin DIN)
pins: 1 +V, 2 +V, 3 GND, 4 GND, SH

## CONN_RIBBON_IN-LINE_2x20P_0.050in
designator J?, comment Supplier 1: Digi-Key  Supplier Part Number 1: H4351-ND  (hidden comment: Center-bar, 40 positions)  (mechanical)
Socket Ribbon Cable 40 POS 1.27mm pitch; Manufacturer 1: Hirose Electric Co Ltd; Manufacturer Part Number 1: FX2BA-40SA-1.27R; Pitch: 0.050" (1.27mm); SCDType: undef; Category: Connectors; Mounting Type: In-Line; Terminal Block Type: Socket, Female; Package / Case: Ribbon cable connector; 1.27mm pitch; Value: Center-bar, 40 positions
pins: 1 OUT2 HI (oc), 2 OUT2 GO (oc), 3 OUT2 LO (oc), 4 N.C. (oc), 5 GND OUT (power), 6 TIMING2 (in), 7 RESET2 (in), 8 ZERO2 (in), 9 P1 (in), 10 P2 (in), 11 P3 (in), 12 GND IN (power), 13 BIN 0 (oc), 14 BIN 1 (oc), 15 BIN 2 (oc), 16 BIN 3 (oc), 17 BIN 4 (oc), 18 BIN 5 (oc), 19 BIN 6 (oc), 20 BIN 7 (oc), 21 BIN 8 (oc), 22 BIN 9 (oc), 23 BIN 10 (oc), 24 BIN 11 (oc), 25 BIN 12 (oc), 26 BIN 13 (oc), 27 BIN 14 (oc), 28 BIN 15 (oc), 29 BIN 16 (oc), 30 BIN 17 (oc), 31 BIN 18 (oc), 32 BIN 19 (oc), 33 BIN 20 (oc), 34 STROBE (oc), 35 OUT1/OUT2 OUT (oc), 36 GND OUT (power), 37 OUT1/OUT2 SEL (in), 38 LASER OFF A (in), 39 LASER OFF B (in), 40 GND IN (power)

## CONN_SOCKET_1x1P_0.100in
designator J?  (value not drawn)
Socket header THT 1-Pos Low profile Single-row 2.54mm pitch; Manufacturer 1: Mill-Max Manufacturing Corp.; Manufacturer Part Number 1: 801-93-064-10-002000; Pitch: 0.100" (2.54mm); Value: 1x1 Pos.; QtyOverride: 0.02; SCDType: undef; Category: Connectors; Mounting Type: Through Hole; Package / Case: Socket header; 2.54mm pitch; Supplier 1: Digi-Key; Supplier Part Number 1: ED2764-ND
footprint 1x1POS_SOCKET_LOWPROF (Connector Socket, Single-row 1-position, 0.100" pitch)
pins: 1

## CONN_SOCKET_1x3P_0.100in
designator J?  (value not drawn)
Socket header THT 3-Pos Low profile Single-row 2.54mm pitch; Manufacturer 1: Mill-Max Manufacturing Corp.; Manufacturer Part Number 1: 801-93-064-10-002000; Pitch: 0.100" (2.54mm); Value: 1x3 Pos.; QtyOverride: 0.05; SCDType: undef; Category: Connectors; Mounting Type: Through Hole; Package / Case: Socket header; 2.54mm pitch; Supplier 1: Digi-Key; Supplier Part Number 1: ED2764-ND
footprint 1x3POS_SOCKET_LOWPROF (Connector Socket, Single-row 3-position, 0.100" pitch)
pins: 1, 2, 3

## CONN_SOCKET_2x3P_0.100in_Female
designator J?, comment micro-match socket  (value not drawn)
Socket THD 6 POS Double-row 2.54mm pitch; Manufacturer 1: TE Connectivity; Manufacturer Part Number 1: 7-215079-6; Pitch: 0.100" (2.54mm); Value: Double-row, 14 positions; QtyOverride: 1; Connector Type: Receptacle; Number of Positions: 6; SCDType: undef; Package / Case: Connector header; 2.54mm pitch; Contact Type: Female Socket; Number of Rows: 2; Row Spacing: 0.100" (2.54mm); Contact Mating Length: 0.243" (6.17mm); ComponentLink1URL: http://multimedia.3m.com/mws/mediawebserver?66666UuZjcFSLXTtm8T_oxMcEVuQEcuZgVs6EVs6E666666--; ComponentLink1Description: http://multimedia.3m.com/mws/mediawebserver?66666UuZjcFSLXTtm8T_oxMcEVuQEcuZgVs6EVs6E666666--; Supplier 1: Digi-Key; Supplier Part Number 1: A30729CT-ND
footprint 6P_PCB_SOCKET_BRD_MNT_MICRO-MATCH (SOCKET MICRO-MATCH BRD MNT 6POS 2.54MM)
pins: 1, 2, 3, 4, 5, 6

## CONN_SOCKET_2x17P_0.100in
designator J?  Supplier 1: Digi-Key  Supplier Part Number 1: MSPV34-ND  (hidden comment: *)
Socket, THT, 34 POS, Double-row, 2.54mm pitch; Manufacturer 1: 3M; Manufacturer Part Number 1: 8534-4500PL; Pitch: 0.100" (2.54mm); Value: Double-row, 34 positions; SCDType: undef; Category: Connectors; Mounting Type: Through Hole; Terminal Block Type: Socket, Female; Package / Case: Connector socket; 2.54mm pitch
footprint 34P_PCB_SOCKET_BRD_MNT (SOCKET BRD MNT 34POS 2.54MM)
pins: 1 AO GND, 2 AO 0, 3 AO GND, 4 AO 1, 5 AO GND, 6 AI GND, 7 NC, 8 AI GND, 9 AI SENSE, 10 AI GND, 11 AI 0, 12 AI 8, 13 AI GND, 14 AI 1, 15 AI 9, 16 AI GND, 17 AI 2, 18 AI 10, 19 AI GND, 20 AI 3, 21 AI 11, 22 AI GND, 23 AI 4, 24 AI 12, 25 AI GND, 26 AI 5, 27 AI 13, 28 AI GND, 29 AI 6, 30 AI 14, 31 AI GND, 32 AI 7, 33 AI 15, 34 AI GND

## CONN_SOCKET_2x25P_0.100in
designator J?  Supplier 1: Digi-Key  Supplier Part Number 1: MSPV50-ND  (hidden comment: *)
Socket, THT, 50 POS, Double-row, 2.54mm pitch; Manufacturer 1: 3M; Manufacturer Part Number 1: 8550-4500PL; Pitch: 0.100" (2.54mm); Value: Double-row, 50 positions; SCDType: undef; Category: Connectors; Mounting Type: Through Hole; Terminal Block Type: Socket, Female; Package / Case: Connector socket; 2.54mm pitch
footprint 50P_PCB_SOCKET_BRD_MNT (SOCKET BRD MNT 50POS 2.54MM)
pins: 1 P0.0, 2 D GND, 3 P0.1, 4 D GND, 5 P0.2, 6 D GND, 7 P0.3, 8 D GND, 9 P0.4, 10 D GND, 11 P0.5, 12 D GND, 13 P0.6, 14 D GND, 15 P0.7, 16 D GND, 17 PFI 0/P1.0, 18 D GND, 19 PFI 1/P1.1, 20 D GND, 21 PFI 2/P1.2, 22 D GND, 23 PFI 3/P1.3, 24 D GND, 25 PFI 4/P1.4, 26 D GND, 27 PFI 5/P1.5, 28 D GND, 29 PFI 6/P1.6, 30 D GND, 31 PFI 7/P1.7, 32 D GND, 33 PFI 8/P2.0, 34 D GND, 35 PFI 9/P2.1, 36 D GND, 37 PFI 10/P2.2, 38 D GND, 39 PFI 11/P2.3, 40 D GND, 41 PFI 12/P2.4, 42 D GND, 43 PFI 13/P2.5, 44 D GND, 45 PFI 14/P2.6, 46 D GND, 47 PFI 15/P2.7, 48 D GND, 49 +5 V, 50 +5 V

## Header2P
designator H?, comment Header  (no BOM)
Header, 2-pin
footprint HDR_1x2_Offset
footprint HDR_1X2X276
pins: 1, 2

## Header4P
designator H?, comment Programmer  (value not drawn)  (no BOM)
Header 4-pin
footprint HDR1X4_1.27MMP (Connector; Header; 4 Position, 0.050" pitch)
footprint HDR1X4_2.54MMP (Connector; Header; 4 Position 0.100" pitch)
footprint CONN_FLATFLEX_4C_1MMP_5MML
footprint CONN_FLATFLEX_4C_1MMP_3MML_TOP
footprint CONN_FLATFLEX_4C_1MMP_3MML_BOT
pins: 1, 2, 3, 4

## Header5P
designator H?, comment Programmer  (value not drawn)  (no BOM)
Header 5-pin
footprint HDR1X5_1.27MMP (Connector; Header; 5 Position, 0.050" pitch)
footprint HDR1X5_2.54MMP (Connector; Header; 5 Position 0.100" pitch)
footprint HDR1X5_1.27MMP_MIN (Programming connector target; 5 Position with minimally sized pads, 0.050" pitch)
pins: 1, 2, 3, 4, 5

## Header6P
designator P?, comment Programmer  (no BOM)
Header, 6-pin
footprint HDR1X6 (Connector; Header; 6 Position)
pins: 1, 2, 3, 4, 5, 6

## Header7P
designator P?, comment Programmer  (no BOM)
Header, 7-pin
footprint HDR1X7 (Connector; Header; 7 Position)
pins: 1, 2, 3, 4, 5, 6, 7

## JUMP_2P_CONN_HEADER
designator J?, comment 1 pcs.  Supplier 1: Digi-Key  Supplier Part Number 1: 929957-08-ND  (mechanical)
Shorting Jumper, 2-position, 2.54mm pitch; Manufacturer 1: 3M; Manufacturer Part Number 1: 929957-08; Pitch: 0.100" (2.54mm); Value: 2 position; SCDType: undef; Category: Connectors Interconnects
pins: 1 hidden, 2 hidden

## USB_Micro_TypeB
designator J?, comment Manufacturer Part Number 1: 47491-0001  (hidden comment: USB Micro Type B)
Connector SMD USB Micro Type B middle mount; Manufacturer 1: Molex Inc; SCDType: undef; Package / Case: SMD; Supplier 1: Digi-Key; Supplier Part Number 1: WM17142CT-ND
footprint USB_Micro-B_Molex_SMD
pins: 1 VBUS, 2 D-, 3 D+, 4 ID, 5 GND, SH Shell

## USB_Micro_TypeB_FCI
designator J?, comment USB Micro Type B (recommended if hand soldering)  (value not drawn)
Connector SMD-THD USB Micro Type B middle mount; Manufacturer 1: FCI; Manufacturer Part Number 1: 10103593-0001LF; SCDType: undef; Package / Case: SMD/THD mid-mount; Supplier 1: Digi-Key; Supplier Part Number 1: 609-4049-1-ND
footprint USB_Micro-B_FCI_SMD
pins: 1 VBUS, 2 D-, 3 D+, 4 ID, 5 GND, SH Shell

## USB_Mini-B
designator J?  Manufacturer Part Number 1: 67503-1020  (hidden comment: *)
Connector SMD USB Type Mini-B; Manufacturer 1: Molex Connector Corporation; SCDType: undef; Package / Case: SMD; Supplier 1: Digi-Key; Supplier Part Number 1: WM5461CT-ND
footprint USB_Mini-B_Molex_SMT
pins: 1 PRT, 2 LD2, 3 CHRG, 4 Vbat, 5 NC, MH1 Shell, MH2 Shell, MH3 Shell, MH4 Shell

## USB_TypeB
designator J?, comment USB-B
Connector THT Type B USB connector; Manufacturer Part Number 1: 292304-1; Manufacturer 1: TE Connectivity; Specifications: USB 2.0; SCDType: undef; Package / Case: R/A Type B; Supplier 1: Digi-Key; Connector Type: USB - B; Supplier Part Number 1: A31725-ND
footprint USB_TypeB_Tyco
pins: 1 V+, 2 DM, 3 DP, 4 V-, MH Shell, MH Shell